# EAGLE library part DC3-16P (library _motovilo)
PIN HEADER
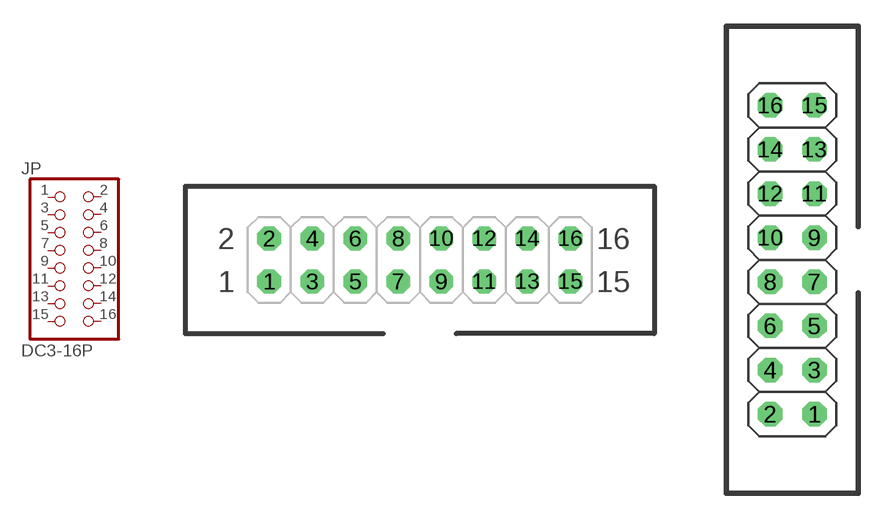
[diagram p27: symbol with the pads of DS1013-16; footprints DS1013-16, 2X08M]

Designator prefix JP

## DC3-16P1  [DS1013-16]
1  1  pas
2  2  pas
3  3  pas
4  4  pas
5  5  pas
6  6  pas
7  7  pas
8  8  pas
9  9  pas
10  10  pas
11  11  pas
12  12  pas
13  13  pas
14  14  pas
15  15  pas
16  16  pas

## DC3-16P2  [2X08M]
Pads as for DS1013-16

## Footprint DS1013-16 (pad centres in mm)
IDC CONNECTOR
drill 0.9 octagon: 1 -8.89,-1.27; 2 -8.89,1.27; 3 -6.35,-1.27; 4 -6.35,1.27; 5 -3.81,-1.27; 6 -3.81,1.27; 7 -1.27,-1.27; 8 -1.27,1.27; 9 1.27,-1.27; 10 1.27,1.27; 11 3.81,-1.27; 12 3.81,1.27; 13 6.35,-1.27; 14 6.35,1.27; 15 8.89,-1.27; 16 8.89,1.27

## Footprint 2X08M (pad centres in mm)
PIN HEADER WITH ANNOTATIONS
drill 0.9 octagon: 1 1.27,-8.89; 2 -1.27,-8.89; 3 1.27,-6.35; 4 -1.27,-6.35; 5 1.27,-3.81; 6 -1.27,-3.81; 7 1.27,-1.27; 8 -1.27,-1.27; 9 1.27,1.27; 10 -1.27,1.27; 11 1.27,3.81; 12 -1.27,3.81; 13 1.27,6.35; 14 -1.27,6.35; 15 1.27,8.89; 16 -1.27,8.89